# Altium schematic symbol library Sockets.SchLib: 4 symbols
Pins are listed as number, name and electrical type; pins without a type are passive.

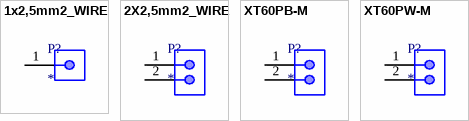
[diagram p0: symbols 1x2,5mm2_WIRE to XT60PW-M]

## 1x2,5mm2_WIRE
designator P?
1x2,5mm2 wire pad
footprint 1x2,5mm2_WIRE
pins: 1 +

## 2X2,5mm2_WIRE
designator P?
2x2,5mm2 wire pads
footprint 2x2,5mm2_WIRE
pins: 1 +, 2 -

## XT60PB-M
designator P?
XT60PB-M; 30A/500V straight female DC PCB socket (pin1 -> +, pin2 -> -)
footprint XT60PB-M
pins: 1 +, 2 -

## XT60PW-M
designator P?
XT60PW-M; 30A/500V angled female DC PCB socket (pin1 -> +, pin2 -> -)
footprint XT60PW-M
pins: 1 +, 2 -